# EAGLE library part CAT24C32 (library l3lanSpy)
EEPROM Serial 32-Kb I2C
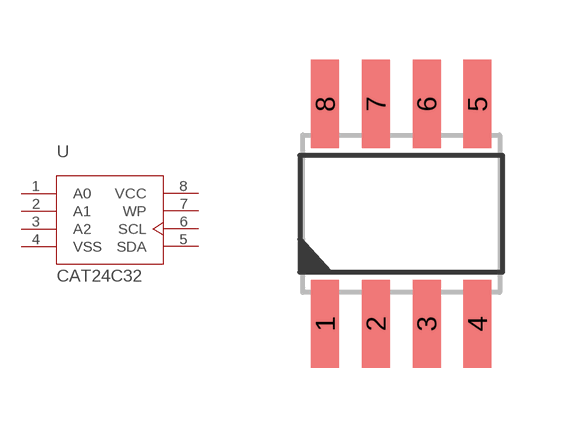
[diagram p3: symbol with the pads of SOIC-8; footprint SOIC-8]

Designator prefix U

## CAT24C32WI-GT3  [SOIC-8]
1  A0  in
2  A1  in
3  A2  in
4  VSS  pwr
5  SDA
6  SCL  in
7  WP  in
8  VCC  pwr

## Footprint SOIC-8 (pad centres in mm)
Small Outline Integrated Circuit (SOIC), 8 Pins
smd 0.7 x 2.2: 1 -1.905,-2.75; 2 -0.635,-2.75; 3 0.635,-2.75; 4 1.905,-2.75; 5 1.905,2.75; 6 0.635,2.75; 7 -0.635,2.75; 8 -1.905,2.75